# EAGLE library part TPS6120 (library texas-instruments)
LOW INPUT VOLTAGE SYNCHRONOUS BOOST CONVERTER WITH 1.3-A SWITCHES
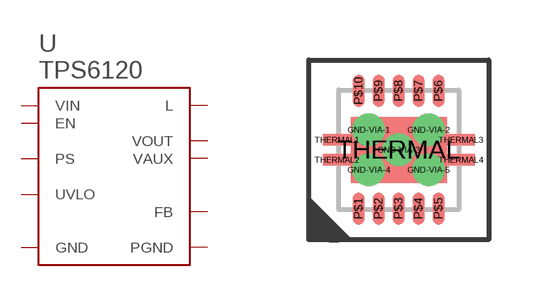
[diagram p26: symbol with the pads of S-PVSON-N10-DRC; footprint S-PVSON-N10-DRC]

Designator prefix U

## TPS61200DRC  [S-PVSON-N10-DRC]
GND-VIA-1  PGND
GND-VIA-2  PGND
GND-VIA-3  PGND
GND-VIA-4  PGND
GND-VIA-5  PGND
P$1  VAUX
P$2  VOUT
P$3  L
P$4  PGND
P$5  VIN
P$6  EN
P$7  UVLO
P$8  PS
P$9  GND
P$10  FB
THERMAL  PGND
THERMAL1  PGND
THERMAL2  PGND
THERMAL3  PGND
THERMAL4  PGND

## Footprint S-PVSON-N10-DRC (pad centres in mm)
drill 0.3 pad 0.4: GND-VIA-1 -0.75,0.5; GND-VIA-2 0.75,0.5; GND-VIA-3 0,0; GND-VIA-4 -0.75,-0.5; GND-VIA-5 0.75,-0.5
smd 0.3 x 0.8: P$1 -1,-1.475; P$2 -0.5,-1.475; P$3 0,-1.475; P$4 0.5,-1.475; P$5 1,-1.475; P$6 1,1.475; P$7 0.5,1.475; P$8 0,1.475; P$9 -0.5,1.475; P$10 -1,1.475
smd 2.4 x 1.65: THERMAL 0,0
smd 0.7 x 0.28: THERMAL1 -1.55,0.25; THERMAL2 -1.55,-0.25; THERMAL3 1.55,0.25; THERMAL4 1.55,-0.25